# Altium schematic symbol library R-CRCW0603330RJNEA.Schlib: 1 symbol
Pins are listed as number, name and electrical type; pins without a type are passive.

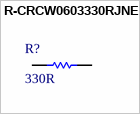
[diagram p0: symbol R-CRCW0603330RJNEA]

## R-CRCW0603330RJNEA
designator R?, comment 330R
Thick Film Resistors - SMD 1/10watt 330ohms 5%
pins: 1, 2